# Altium integrated library RC0805FR-074K7L.IntLib: 1 symbol
Pins are listed as number, name and electrical type; pins without a type are passive.

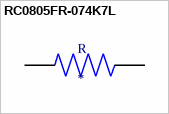
[diagram p0: symbol RC0805FR-074K7L]

## RC0805FR-074K7L
designator R
4.7 kOhms Â±1% 0.125W, 1/8W Chip Resistor 0805 _2012 Metric_ Moisture Resistant Thick Film; MF: Yageo; MP: RC0805FR-074K7L; Value: *; Package: 2012 Rohm Semiconductor; Digi-Key_Purchase_URL: https://www.digikey.com.eg/product-detail/en/yageo/RC0805FR-074K7L/311-4.70KCRCT-ND/730876?utm_source=snapeda&utm_medium=aggregator&utm_campaign=symbol; Digi-Key_Part_Number: 311-4.70KCRCT-ND; SnapEDA_Link: https://www.snapeda.com/parts/RC0805FR-074K7L/Yageo/view-part/523399/?ref=snap
footprint RESC2012X60N
pins: 1, 2